# EAGLE library part OP07CN (library ST Microelectronics)
operational amplifiers
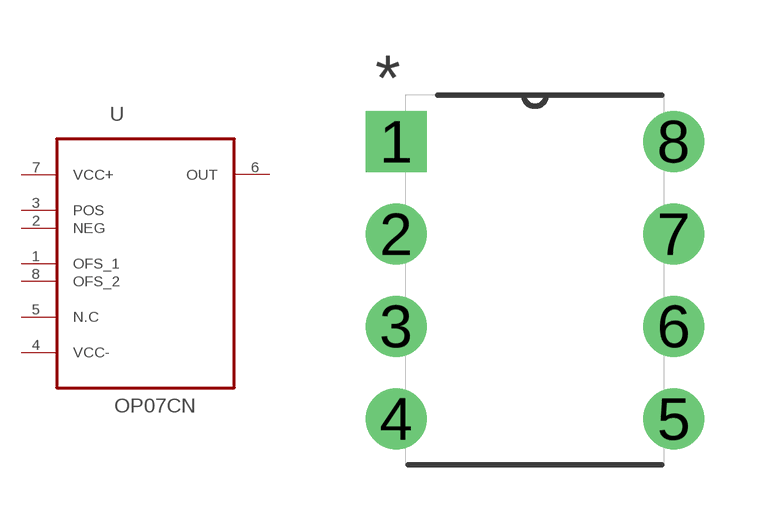
[diagram p288: symbol with the pads of DIP254P762X533-8; footprint DIP254P762X533-8]

Designator prefix U

## OP07CN (MPN: OP07CN; OC_FARNELL: 1094321; OC_NEWARK: 89K0939; PACKAGE: DIP; SUPPLIER: STMICROELECTRONICS)  [DIP254P762X533-8]
1  OFS_1  pas
2  NEG  in
3  POS  in
4  VCC-  pwr
5  N.C  nc
6  OUT  out
7  VCC+  pwr
8  OFS_2  pas

## Footprint DIP254P762X533-8 (pad centres in mm)
drill 1.118 square: 1 -7.62,7.62
drill 1.118: 2 -7.62,5.08; 3 -7.62,2.54; 4 -7.62,0; 5 0,0; 6 0,2.54; 7 0,5.08; 8 0,7.62